# Altium footprint library MODULE_LCD-16X2.PcbLib: 1 footprints
Each footprint in its own frame and in the unit in brackets; x right, y up, seen from the top. Pads: shape width x height; smd on the part's side, far side on the other; paste and mask are expansions set on the pad; w line width, h text height; cw(c..) or ccw(c..) is an arc to the next point about the centre after c.
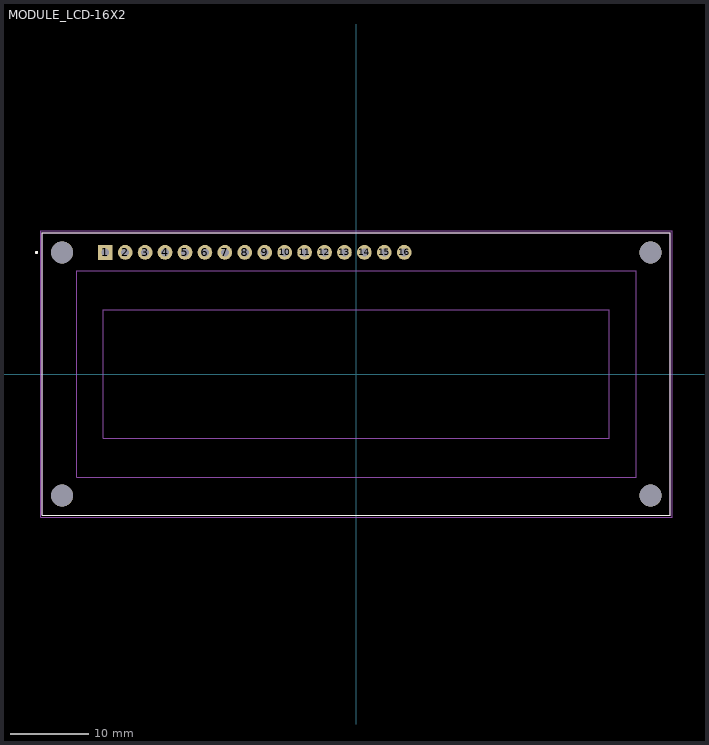
[diagram p0: the footprint, top view; thin cyan lines are the x and y axes]

## MODULE_LCD-16X2 [mm]
height 14
pads (20):
  rect 1.88x1.88 / inner round 1.88 / far side rect 1.88x1.88 hole 1.016: 1(-32,15.5)
  round 1.88 hole 1.016: 2(-29.46,15.5) 3(-26.92,15.5) 4(-24.38,15.5) 5(-21.84,15.5) 6(-19.3,15.5) 7(-16.76,15.5) 8(-14.22,15.5) 9(-11.68,15.5) 10(-9.14,15.5) 11(-6.6,15.5) 12(-4.06,15.5) 13(-1.52,15.5) 14(1.02,15.5) 15(3.56,15.5) 16(6.1,15.5)
  round 2.8 hole 2.8 unplated: ""(-37.5,-15.5) ""(-37.5,15.5) ""(37.5,-15.5) ""(37.5,15.5)
Top Overlay:
  circle w0.2: c-40.75,15.5 r0.1
  lines w0.127: -40,-18 40,-18 40,18 -40,18 -40,-18
Assembly Top:
  circle w0.2: c-40.75,15.5 r0.1
  lines w0.127: -40,-18 40,-18 40,18 -40,18 -40,-18 ; -35.65,-13.15 35.65,-13.15 35.65,13.15 -35.65,13.15 -35.65,-13.15 ; -32.25,-8.2 32.25,-8.2 32.25,8.2 -32.25,8.2 -32.25,-8.2
Courtyard Top:
  lines w0.05: -40.25,-18.25 -40.25,18.25 40.25,18.25 40.25,-18.25 -40.25,-18.25
3D body "step_temp.STEP": height 10.2, standoff -3, extent -40.757,-18.034 39.243,17.966